# Altium footprint library NCV8730.PcbLib: 1 footprints
Each footprint in its own frame and in the unit in brackets; x right, y up, seen from the top. Pads: shape width x height; smd on the part's side, far side on the other; paste and mask are expansions set on the pad; w line width, h text height; cw(c..) or ccw(c..) is an arc to the next point about the centre after c.
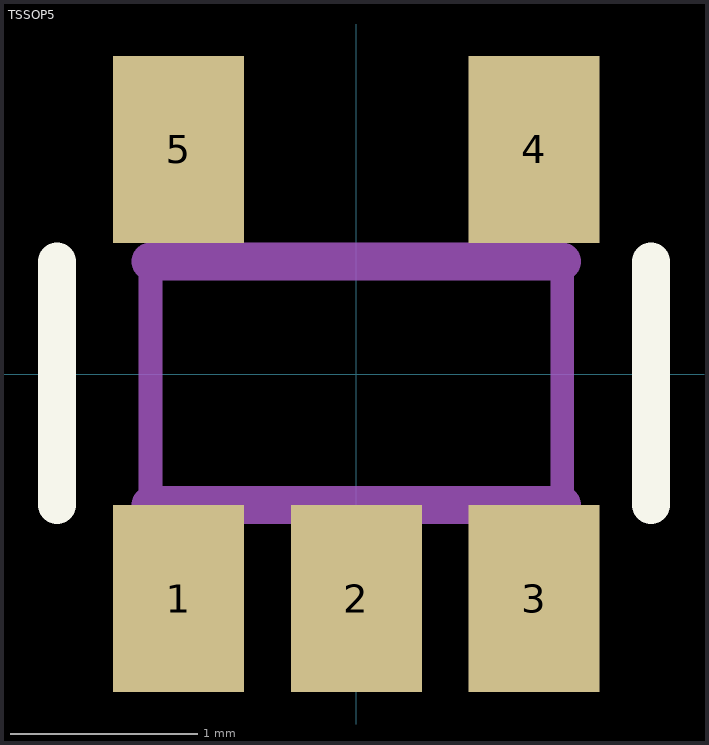
[diagram p0: the footprint, top view; thin cyan lines are the x and y axes]

## TSSOP5 [mm]
pads (5):
  rect 0.7x1 smd: 1(-0.95,-1.2) 2(0,-1.2) 3(0.95,-1.2) 4(0.95,1.2) 5(-0.95,1.2)
Top Overlay:
  lines w0.203: -1.6,-0.7 -1.6,0.6 ; 1.575,-0.7 1.575,0.6
Mechanical 13:
  lines w0.127: -1.1,-0.7 -1.1,0.6 ; 1.1,-0.7 1.1,0.6
  lines w0.203: -1.1,-0.7 1.1,-0.7 ; -1.1,0.6 1.1,0.6